# EAGLE library part 5267-14 (library con-molex-spox)
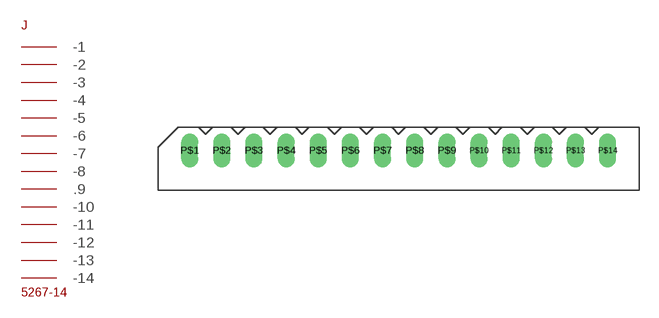
[diagram p9: symbol with the pads of 5267-14; footprint 5267-14]

Designator prefix J

## 5267-14  [5267-14]
P$1  -1
P$2  -2
P$3  -3
P$4  -4
P$5  -5
P$6  -6
P$7  -7
P$8  -8
P$9  .9
P$10  -10
P$11  -11
P$12  -12
P$13  -13
P$14  -14

## Footprint 5267-14 (pad centres in mm)
drill 0.8 long: P$1 0,0; P$2 2.5,0; P$3 5,0; P$4 7.5,0; P$5 10,0; P$6 12.5,0; P$7 15,0; P$8 17.5,0; P$9 20,0; P$10 22.5,0; P$11 25,0; P$12 27.5,0; P$13 30,0; P$14 32.5,0